# EAGLE library part GB-CPU (library Gekkio-gameboy)
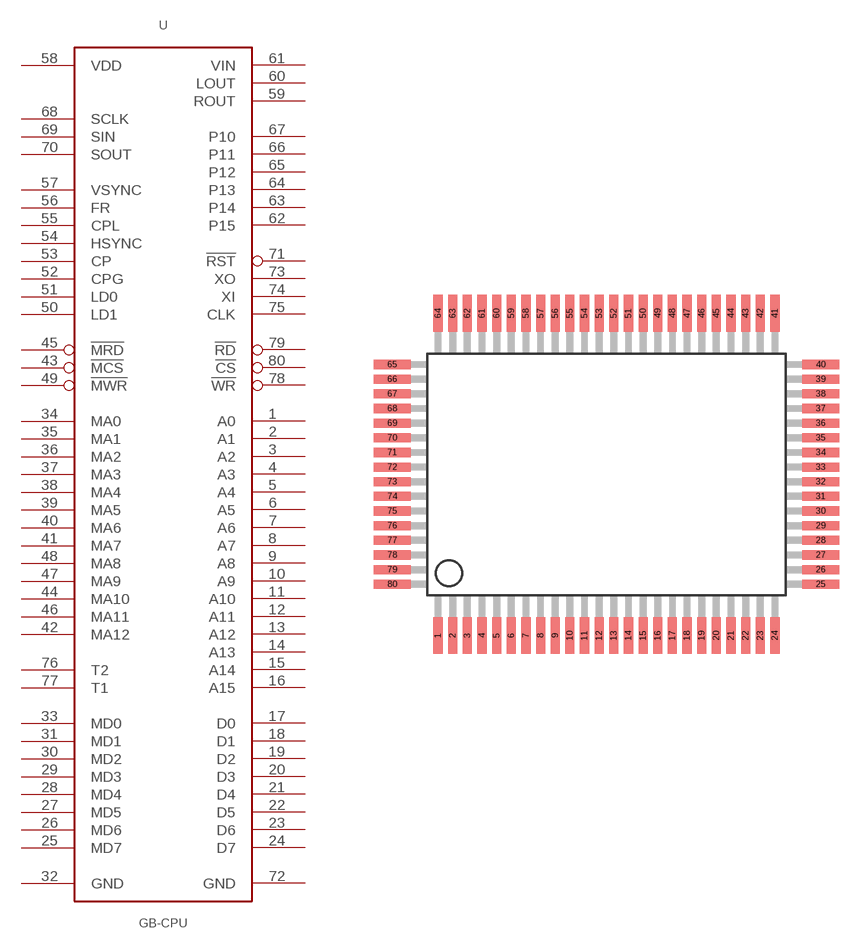
[diagram p3: symbol with the pads of QFP80; footprint QFP80]

Designator prefix U

## GB-CPU  [QFP80]
1  A0  out
2  A1  out
3  A2  out
4  A3  out
5  A4  out
6  A5  out
7  A6  out
8  A7  out
9  A8  out
10  A9  out
11  A10  out
12  A11  out
13  A12  out
14  A13  out
15  A14  out
16  A15  out
17  D0
18  D1
19  D2
20  D3
21  D4
22  D5
23  D6
24  D7
25  MD7
26  MD6
27  MD5
28  MD4
29  MD3
30  MD2
31  MD1
32  GND  pwr
33  MD0
34  MA0  out
35  MA1  out
36  MA2  out
37  MA3  out
38  MA4  out
39  MA5  out
40  MA6  out
41  MA7  out
42  MA12  out
43  !MCS  out
44  MA10  out
45  !MRD  out
46  MA11  out
47  MA9  out
48  MA8  out
49  !MWR  out
50  LD1  out
51  LD0  out
52  CPG  out
53  CP  out
54  HSYNC  out
55  CPL  out
56  FR  out
57  VSYNC  out
58  VDD  pwr
59  ROUT  out
60  LOUT  out
61  VIN  in
62  P15  out
63  P14  out
64  P13  in
65  P12  in
66  P11  in
67  P10  in
68  SCLK
69  SIN  in
70  SOUT  out
71  !RST  in
72  GND  pwr
73  XO
74  XI
75  CLK  out
76  T2  in
77  T1  in
78  !WR  out
79  !RD  out
80  !CS  out

## Footprint QFP80 (pad centres in mm)
QFP80 Tested Source: Educated guesswork and measurements from a SGB-CPU 01 chip and various Game Boy mainboards
smd 0.5 x 2: 1 -9.2,-8.8; 2 -8.4,-8.8; 3 -7.6,-8.8; 4 -6.8,-8.8; 5 -6,-8.8; 6 -5.2,-8.8; 7 -4.4,-8.8; 8 -3.6,-8.8; 9 -2.8,-8.8; 10 -2,-8.8; 11 -1.2,-8.8; 12 -0.4,-8.8; 13 0.4,-8.8; 14 1.2,-8.8; 15 2,-8.8; 16 2.8,-8.8; 17 3.6,-8.8; 18 4.4,-8.8; 19 5.2,-8.8; 20 6,-8.8; 21 6.8,-8.8; 22 7.6,-8.8; 23 8.4,-8.8; 24 9.2,-8.8; 41 9.2,8.8; 42 8.4,8.8; 43 7.6,8.8; 44 6.8,8.8; 45 6,8.8; 46 5.2,8.8; 47 4.4,8.8; 48 3.6,8.8; 49 2.8,8.8; 50 2,8.8; 51 1.2,8.8; 52 0.4,8.8; 53 -0.4,8.8; 54 -1.2,8.8; 55 -2,8.8; 56 -2.8,8.8; 57 -3.6,8.8; 58 -4.4,8.8; 59 -5.2,8.8; 60 -6,8.8; 61 -6.8,8.8; 62 -7.6,8.8; 63 -8.4,8.8; 64 -9.2,8.8
smd 2 x 0.5: 25 11.7,-6; 26 11.7,-5.2; 27 11.7,-4.4; 28 11.7,-3.6; 29 11.7,-2.8; 30 11.7,-2; 31 11.7,-1.2; 32 11.7,-0.4; 33 11.7,0.4; 34 11.7,1.2; 35 11.7,2; 36 11.7,2.8; 37 11.7,3.6; 38 11.7,4.4; 39 11.7,5.2; 40 11.7,6; 65 -11.7,6; 66 -11.7,5.2; 67 -11.7,4.4; 68 -11.7,3.6; 69 -11.7,2.8; 70 -11.7,2; 71 -11.7,1.2; 72 -11.7,0.4; 73 -11.7,-0.4; 74 -11.7,-1.2; 75 -11.7,-2; 76 -11.7,-2.8; 77 -11.7,-3.6; 78 -11.7,-4.4; 79 -11.7,-5.2; 80 -11.7,-6